# Altium schematic symbol library STM32F415OGY6.SchLib: 1 symbol
Pins are listed as number, name and electrical type; pins without a type are passive.

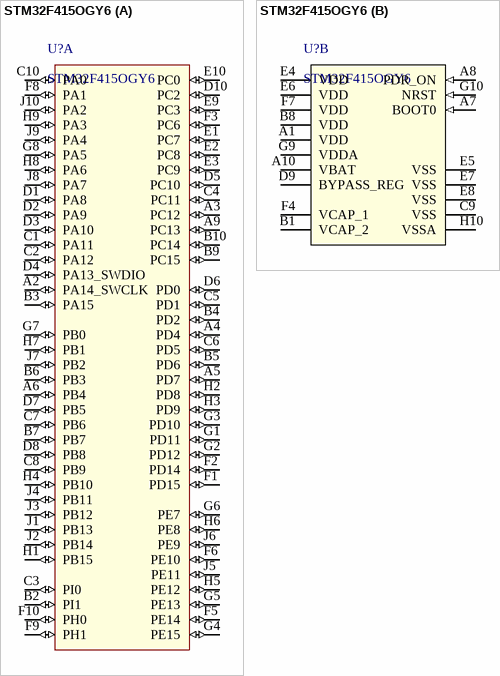
[diagram p0: symbol STM32F415OGY6]

## STM32F415OGY6
designator U?
part A pins: A2 PA14_SWCLK (io), A3 PC12 (io), A4 PD4 (io), A5 PD7 (io), A6 PB4 (io), A9 PC13 (io), B2 PI1 (io), B3 PA15 (io), B4 PD2 (io), B5 PD6 (io), B6 PB3 (io), B7 PB7 (io), B9 PC15 (io), B10 PC14 (io), C1 PA11 (io), C2 PA12 (io), C3 PI0 (io), C4 PC11 (io), C5 PD1 (io), C6 PD5 (io), C7 PB6 (io), C8 PB9 (io), C10 PA0 (io), D1 PA8 (io), D2 PA9 (io), D3 PA10 (io), D4 PA13_SWDIO (io), D5 PC10 (io), D6 PD0 (io), D7 PB5 (io), D8 PB8 (io), D10 PC2 (io), E1 PC7 (io), E2 PC8 (io), E3 PC9 (io), E9 PC3 (io), E10 PC0 (io), F1 PD15 (io), F2 PD14 (io), F3 PC6 (io), F5 PE14 (io), F6 PE10 (io), F8 PA1 (io), F9 PH1 (io), F10 PH0 (io), G1 PD11 (io), G2 PD12 (io), G3 PD10 (io), G4 PE15 (io), G5 PE13 (io), G6 PE7 (io), G7 PB0 (io), G8 PA5 (io), H1 PB15 (io), H2 PD8 (io), H3 PD9 (io), H4 PB10 (io), H5 PE12 (io), H6 PE8 (io), H7 PB1 (io), H8 PA6 (io), H9 PA3 (io), J1 PB13 (io), J2 PB14 (io), J3 PB12 (io), J4 PB11 (io), J5 PE11 (io), J6 PE9 (io), J7 PB2 (io), J8 PA7 (io), J9 PA4 (io), J10 PA2 (io)
part B pins: A1 VDD, A7 BOOT0 (in), A8 PDR_ON (in), A10 VBAT, B1 VCAP_2, B8 VDD, C9 VSS, D9 BYPASS_REG, E4 VDD, E5 VSS, E6 VDD, E7 VSS, E8 VSS, F4 VCAP_1, F7 VDD, G9 VDDA, G10 NRST (in), H10 VSSA